# EAGLE library part IS61LV12824-* (library memory-issi-asynsram)
128k x 24 high- speed CMOS static RAM 8ns and 10ns access time 3.3V power supply
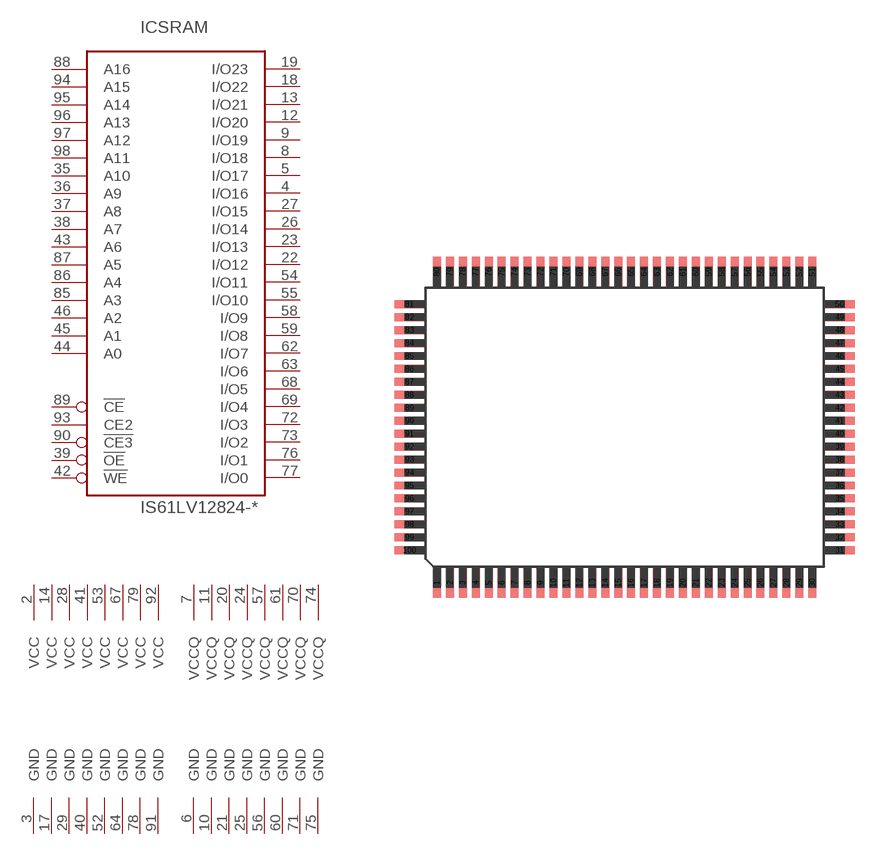
[diagram p157: symbol with the pads of TQFP100_14X20; footprint TQFP100_14X20]

Designator prefix IC; gates SRAM=128KX24_TYP1 PWR=PWR_VCC8_VCCQ8_GND16

## IS61LV12824-10TQ, IS61LV12824-8TQ  [TQFP100_14X20]
2  PWR:VCC  pwr
3  PWR:GND  pwr
4  SRAM:I/O16  hiz
5  SRAM:I/O17  hiz
6  PWR:GND  pwr
7  PWR:VCCQ  pwr
8  SRAM:I/O18  hiz
9  SRAM:I/O19  hiz
10  PWR:GND  pwr
11  PWR:VCCQ  pwr
12  SRAM:I/O20  hiz
13  SRAM:I/O21  hiz
14  PWR:VCC  pwr
17  PWR:GND  pwr
18  SRAM:I/O22  hiz
19  SRAM:I/O23  hiz
20  PWR:VCCQ  pwr
21  PWR:GND  pwr
22  SRAM:I/O12  hiz
23  SRAM:I/O13  hiz
24  PWR:VCCQ  pwr
25  PWR:GND  pwr
26  SRAM:I/O14  hiz
27  SRAM:I/O15  hiz
28  PWR:VCC  pwr
29  PWR:GND  pwr
35  SRAM:A10  in
36  SRAM:A9  in
37  SRAM:A8  in
38  SRAM:A7  in
39  SRAM:!OE  in
40  PWR:GND  pwr
41  PWR:VCC  pwr
42  SRAM:!WE  in
43  SRAM:A6  in
44  SRAM:A0  in
45  SRAM:A1  in
46  SRAM:A2  in
52  PWR:GND  pwr
53  PWR:VCC  pwr
54  SRAM:I/O11  hiz
55  SRAM:I/O10  hiz
56  PWR:GND  pwr
57  PWR:VCCQ  pwr
58  SRAM:I/O9  hiz
59  SRAM:I/O8  hiz
60  PWR:GND  pwr
61  PWR:VCCQ  pwr
62  SRAM:I/O7  hiz
63  SRAM:I/O6  hiz
64  PWR:GND  pwr
67  PWR:VCC  pwr
68  SRAM:I/O5  hiz
69  SRAM:I/O4  hiz
70  PWR:VCCQ  pwr
71  PWR:GND  pwr
72  SRAM:I/O3  hiz
73  SRAM:I/O2  hiz
74  PWR:VCCQ  pwr
75  PWR:GND  pwr
76  SRAM:I/O1  hiz
77  SRAM:I/O0  hiz
78  PWR:GND  pwr
79  PWR:VCC  pwr
85  SRAM:A3  in
86  SRAM:A4  in
87  SRAM:A5  in
88  SRAM:A16  in
89  SRAM:!CE  in
90  SRAM:!CE3  in
91  PWR:GND  pwr
92  PWR:VCC  pwr
93  SRAM:CE2  in
94  SRAM:A15  in
95  SRAM:A14  in
96  SRAM:A13  in
97  SRAM:A12  in
98  SRAM:A11  in

## Footprint TQFP100_14X20 (pad centres in mm)
TQFP100 14 x 20 mm, 100-pin 0.65 mm pitch thin quad flat pack package
smd 0.4 x 1.5: 1 -9.425,-7.8; 2 -8.775,-7.8; 3 -8.125,-7.8; 4 -7.475,-7.8; 5 -6.825,-7.8; 6 -6.175,-7.8; 7 -5.525,-7.8; 8 -4.875,-7.8; 9 -4.225,-7.8; 10 -3.575,-7.8; 11 -2.925,-7.8; 12 -2.275,-7.8; 13 -1.625,-7.8; 14 -0.975,-7.8; 15 -0.325,-7.8; 16 0.325,-7.8; 17 0.975,-7.8; 18 1.625,-7.8; 19 2.275,-7.8; 20 2.925,-7.8; 21 3.575,-7.8; 22 4.225,-7.8; 23 4.875,-7.8; 24 5.525,-7.8; 25 6.175,-7.8; 26 6.825,-7.8; 27 7.475,-7.8; 28 8.125,-7.8; 29 8.775,-7.8; 30 9.425,-7.8; 51 9.425,7.8; 52 8.775,7.8; 53 8.125,7.8; 54 7.475,7.8; 55 6.825,7.8; 56 6.175,7.8; 57 5.525,7.8; 58 4.875,7.8; 59 4.225,7.8; 60 3.575,7.8; 61 2.925,7.8; 62 2.275,7.8; 63 1.625,7.8; 64 0.975,7.8; 65 0.325,7.8; 66 -0.325,7.8; 67 -0.975,7.8; 68 -1.625,7.8; 69 -2.275,7.8; 70 -2.925,7.8; 71 -3.575,7.8; 72 -4.225,7.8; 73 -4.875,7.8; 74 -5.525,7.8; 75 -6.175,7.8; 76 -6.825,7.8; 77 -7.475,7.8; 78 -8.125,7.8; 79 -8.775,7.8; 80 -9.425,7.8
smd 1.5 x 0.4: 31 10.8,-6.175; 32 10.8,-5.525; 33 10.8,-4.875; 34 10.8,-4.225; 35 10.8,-3.575; 36 10.8,-2.925; 37 10.8,-2.275; 38 10.8,-1.625; 39 10.8,-0.975; 40 10.8,-0.325; 41 10.8,0.325; 42 10.8,0.975; 43 10.8,1.625; 44 10.8,2.275; 45 10.8,2.925; 46 10.8,3.575; 47 10.8,4.225; 48 10.8,4.875; 49 10.8,5.525; 50 10.8,6.175; 81 -10.8,6.175; 82 -10.8,5.525; 83 -10.8,4.875; 84 -10.8,4.225; 85 -10.8,3.575; 86 -10.8,2.925; 87 -10.8,2.275; 88 -10.8,1.625; 89 -10.8,0.975; 90 -10.8,0.325; 91 -10.8,-0.325; 92 -10.8,-0.975; 93 -10.8,-1.625; 94 -10.8,-2.275; 95 -10.8,-2.925; 96 -10.8,-3.575; 97 -10.8,-4.225; 98 -10.8,-4.875; 99 -10.8,-5.525; 100 -10.8,-6.175